# Altium integrated library M95160-RMN6TP.IntLib: 1 symbol
Pins are listed as number, name and electrical type; pins without a type are passive.

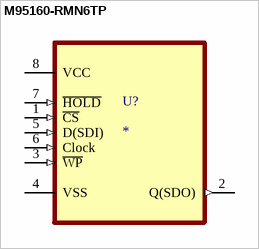
[diagram p0: symbol M95160-RMN6TP]

## M95160-RMN6TP
designator U?
SPI bus EEPROM; MP: M95160-RMN6TP; Package: None; Price: None; Value: *; Availability: Unavailable
footprint SOIC127P600X175-8N
pins: 1 ~{CS} (in), 2 Q(SDO) (out), 3 ~{W}~{P} (in), 4 VSS, 5 D(SDI) (in), 6 Clock (in), 7 ~{HOLD} (in), 8 VCC